# Altium schematic symbol library sheet_templates.SchLib: 2 symbols
Pins are listed as number, name and electrical type; pins without a type are passive.

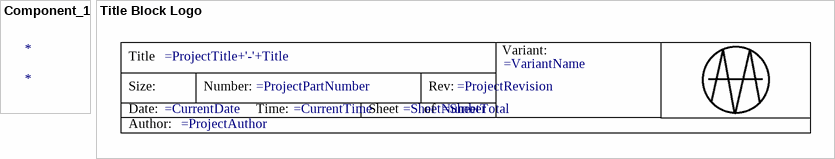
[diagram p0: symbols Component_1 to Title Block Logo]

## Component_1
designator *

## Title Block Logo
designator ?  (value not drawn)  (graphical)
Sheet Title: =ProjectTitle+'-'+Title; Document Number: =ProjectPartNumber; Revision Number: =ProjectRevision; Organization Address 1: =VariantName; Date: =CurrentDate; Time: =CurrentTime; Document Path and Name: =ProjectAuthor; Total Sheets: =SheetTotal; Sheet Number: =SheetNumber
text: Variant:; Title; Size:; Number:; Rev:; Date:; Time:; Sheet; of; Author: